# Altium footprint library Connectors.PcbLib: 69 footprints (part 1 of 5)
Each footprint in its own frame and in the unit in brackets; x right, y up, seen from the top. Pads: shape width x height; smd on the part's side, far side on the other; paste and mask are expansions set on the pad; w line width, h text height; cw(c..) or ccw(c..) is an arc to the next point about the centre after c.
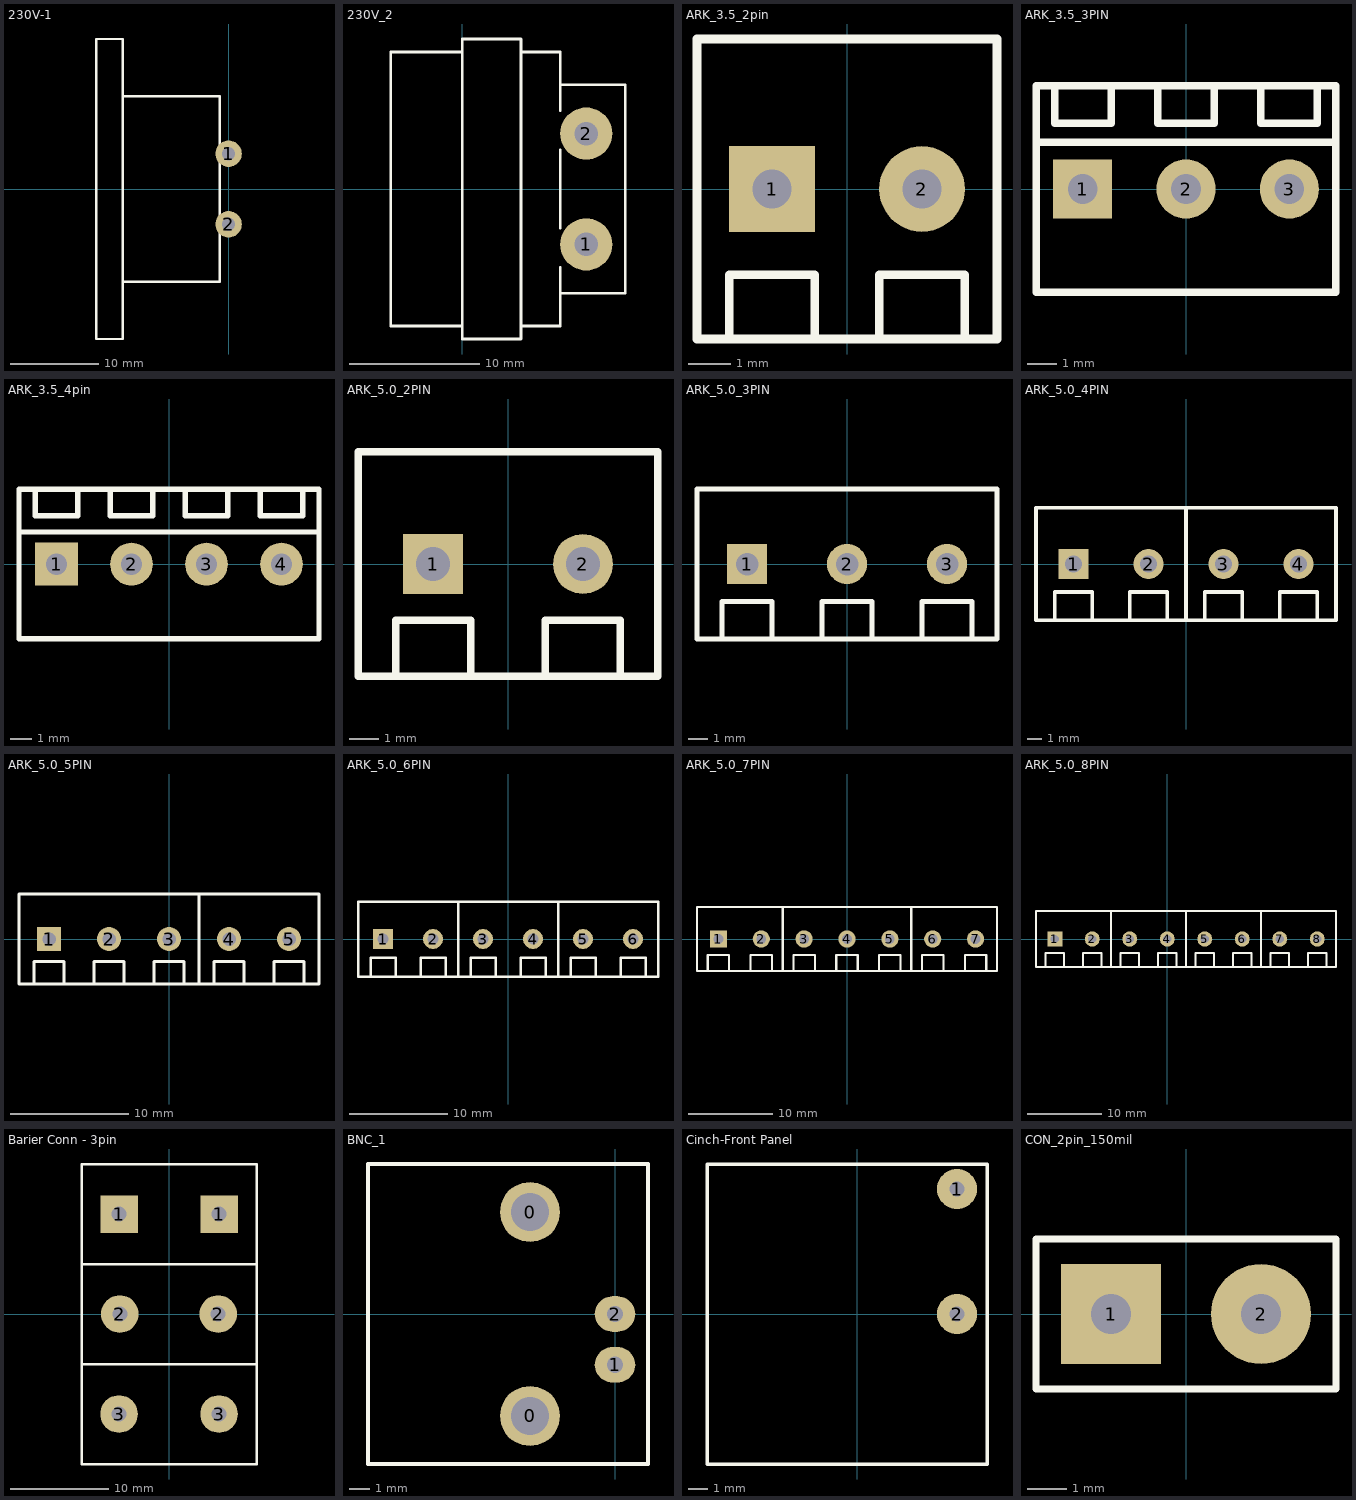
[diagram p0: the footprints below, top view; thin cyan lines are the x and y axes]

## 230V-1 [mm] "Gniazdo 230 \"ósemka\" do druku"
height 14.5
pads (2):
  round 3 hole 1.5: 1(0,4) 2(0,-4)
Top Overlay:
  lines w0.254: -12,-10.5 -1,-10.5 -1,10.5 -12,10.5 ; -15,-17 -15,0 -15,17 -12,17 -12,-17 -15,-17
3D body "230V_8_PCB.STEP": height 14.68, standoff -2.07, extent -17.95,-17 0.25,17

## 230V_2 [mm] "Gniazdo 230V, \"ósemka\" do druku"
height 12.5
pads (2):
  round 4 hole 1.8 unplated: 1(9.5,-4.25) 2(9.5,4.25)
Top Overlay:
  lines w0.203: 0,-10.5 -5.5,-10.5 -5.5,10.5 0,10.5 ; 4.5,-10.5 7.5,-10.5 ; 4.5,10.5 7.5,10.5 7.5,6 ; 7.5,-8 12.5,-8 12.5,8 7.5,8 ; 7.5,-6 7.5,-10.5 ; 7.5,-3 7.5,3 ; 7.5,-10.5 7.5,-10.5 ; 0,-11.5 4.5,-11.5 4.5,11.5 0,11.5 0,-11.5

## ARK_3.5_2pin [mm] "Z³¹cze ARK mini 3.5mm"
height 7.62
pads (2):
  rect 2x2 hole 0.9: 1(-1.75,0)
  round 2 hole 0.9: 2(1.75,0)
Top Overlay:
  lines w0.203: -2.75,-3.5 -2.75,-2 -0.75,-2 -0.75,-3.5 ; 0.75,-3.5 0.75,-2 2.75,-2 2.75,-3.5 ; -3.5,-3.5 3.5,-3.5 3.5,3.5 -3.5,3.5 -3.5,-3.5
3D body "ARK_Body.STEP": height 8.5, standoff 0, extent -3.8,-3.5 3.8,3.5
3D body "ARK_Pin.STEP": height 4.3, standoff -3.9, extent 0.35,-1.9 3.15,1.9
3D body "ARK_Pin.STEP": height 4.3, standoff -3.9, extent -3.15,-1.9 -0.35,1.9
3D body "ARK_Œruba.STEP": height 7, standoff 2.5, extent 0.4,-1.3 3.1,1.397
3D body "ARK_Œruba.STEP": height 7, standoff 2.5, extent -3.1,-1.292 -0.4,1.4

## ARK_3.5_3PIN [mm] "Z³acze ARK raster 3.5mm 3 pin"
height 7.62
pads (3):
  rect 2x2 hole 1: 1(-3.5,0)
  round 2 hole 1: 2(0,0) 3(3.5,0)
Top Overlay:
  lines w0.254: -5.08,1.587 5.08,1.587 ; -4.445,3.492 -4.445,2.222 -2.54,2.222 -2.54,3.492 ; -0.953,3.492 -0.953,2.222 0.953,2.222 0.953,3.492 ; 2.54,3.433 2.54,2.222 4.445,2.222 4.445,3.492 ; -5.08,-3.492 5.08,-3.492 5.08,3.492 -5.08,3.492 -5.08,-3.492
3D body "ARK_3pin_3.5mm.STEP": height 8.52, standoff -3.88, extent -5.55,-3.43 5.55,3.57

## ARK_3.5_4pin [mm] "Z³¹cze ARK mini 3.5mm"
height 7.62
pads (4):
  rect 2x2 hole 1: 1(-5.25,0)
  round 2 hole 1: 2(-1.75,0) 3(1.75,0) 4(5.25,0)
Top Overlay:
  lines w0.254: -7,1.5 7,1.5 ; -6.25,3.5 -6.25,2.25 -4.25,2.25 -4.25,3.5 ; -2.75,3.5 -2.75,2.25 -0.75,2.25 -0.75,3.5 ; 0.75,3.5 0.75,2.25 2.75,2.25 2.75,3.5 ; 4.25,3.5 4.25,2.25 6.25,2.25 6.25,3.5 ; -7,-3.485 7,-3.485 7,3.5 -7,3.5 -7,-3.485
3D body "ARK_Œruba.STEP": height 7, standoff 2.5, extent 0.4,-1.292 3.1,1.4
3D body "ARK_Œruba.STEP": height 7, standoff 2.5, extent 3.9,-1.3 6.6,1.397
3D body "ARK_Pin.STEP": height 4.3, standoff -3.9, extent 0.35,-1.9 3.15,1.9
3D body "ARK_Pin.STEP": height 4.3, standoff -3.9, extent 3.85,-1.9 6.65,1.9
3D body "ARK_Body.STEP": height 8.5, standoff 0, extent -0.3,-3.5 7.3,3.5
3D body "ARK_Œruba.STEP": height 7, standoff 2.5, extent -6.6,-1.292 -3.9,1.4
3D body "ARK_Œruba.STEP": height 7, standoff 2.5, extent -3.1,-1.3 -0.4,1.397
3D body "ARK_Pin.STEP": height 4.3, standoff -3.9, extent -6.65,-1.9 -3.85,1.9
3D body "ARK_Pin.STEP": height 4.3, standoff -3.9, extent -3.15,-1.9 -0.35,1.9
3D body "ARK_Body.STEP": height 8.5, standoff 0, extent -7.3,-3.5 0.3,3.5

## ARK_5.0_2PIN [mil] "ARK Screw Connector 2PINs"
height 400
pads (2):
  rect 80x80 hole 45: 1(-100,0)
  round 80 hole 45: 2(100,0)
Top Overlay:
  lines w10: -150,-150 -150,-75 -50,-75 -50,-150 ; 50,-150 50,-75 150,-75 150,-150 ; -200,-150 -200,150 200,150 200,-150 -200,-150

## ARK_5.0_3PIN [mil] "ARK Screw Connector 3PINs"
height 400
pads (3):
  rect 80x80 hole 45: 1(-200,0)
  round 80 hole 45: 2(0,0) 3(200,0)
Top Overlay:
  lines w10: -250,-150 -250,-75 -150,-75 -150,-150 ; -50,-150 -50,-75 50,-75 50,-150 ; 150,-150 150,-75 250,-75 250,-150 ; -300,-150 300,-150 300,150 -300,150 -300,-150

## ARK_5.0_4PIN [mil] "ARK Screw Connector 4PINs"
height 400
pads (4):
  rect 80x80 hole 45: 1(-300,0)
  round 80 hole 45: 2(-100,0) 3(100,0) 4(300,0)
Top Overlay:
  lines w10: -350,-150 -350,-75 -250,-75 -250,-150 ; -150,-150 -150,-75 -50,-75 -50,-150 ; 0,-150 0,150 ; 50,-150 50,-75 150,-75 150,-150 ; 250,-150 250,-75 350,-75 350,-150 ; -400,-150 400,-150 400,150 -400,150 -400,-150

## ARK_5.0_5PIN [mil] "ARK Screw Connector 5PINs"
height 400
pads (5):
  rect 80x80 hole 45: 1(-400,0)
  round 80 hole 45: 2(-200,0) 3(0,0) 4(200,0) 5(400,0)
Top Overlay:
  lines w10: -450,-150 -450,-75 -350,-75 -350,-150 ; -250,-150 -250,-75 -150,-75 -150,-150 ; -50,-150 -50,-75 50,-75 50,-150 ; 100,-150 100,150 ; 150,-150 150,-75 250,-75 250,-150 ; 350,-150 350,-75 450,-75 450,-150 ; -500,-150 -500,150 500,150 500,-150 -500,-150

## ARK_5.0_6PIN [mil] "ARK Screw Connector 6PINs"
height 400
pads (6):
  rect 80x80 hole 45: 1(-500,0)
  round 80 hole 45: 2(-300,0) 3(-100,0) 4(100,0) 5(300,0) 6(500,0)
Top Overlay:
  lines w10: -550,-150 -550,-75 -450,-75 -450,-150 ; -350,-150 -350,-75 -250,-75 -250,-150 ; -200,-150 -200,150 ; -150,-150 -150,-75 -50,-75 -50,-150 ; 50,-150 50,-75 150,-75 150,-150 ; 200,-150 200,150 ; 250,-150 250,-75 350,-75 350,-150 ; 450,-150 450,-75 550,-75 550,-150 ; -600,-150 -600,150 600,150 600,-150 -600,-150

## ARK_5.0_7PIN [mil] "ARK Screw Connector 7PINs"
height 400
pads (7):
  rect 80x80 hole 45: 1(-600,0)
  round 80 hole 45: 2(-400,0) 3(-200,0) 4(0,0) 5(200,0) 6(400,0) 7(600,0)
Top Overlay:
  lines w10: -650,-150 -650,-75 -550,-75 -550,-150 ; -450,-150 -450,-75 -350,-75 -350,-150 ; -300,-150 -300,150 ; -250,-150 -250,-75 -150,-75 -150,-150 ; -50,-150 -50,-75 50,-75 50,-150 ; 150,-150 150,-75 250,-75 250,-150 ; 300,-150 300,150 ; 350,-150 350,-75 450,-75 450,-150 ; 550,-150 550,-75 650,-75 650,-150 ; -700,-150 700,-150 700,150 -700,150 -700,-150

## ARK_5.0_8PIN [mil] "ARK Screw Connector 8PINs"
height 400
pads (8):
  rect 80x80 hole 45: 1(-600,0)
  round 80 hole 45: 2(-400,0) 3(-200,0) 4(0,0) 5(200,0) 6(400,0) 7(600,0) 8(800,0)
Top Overlay:
  lines w10: -650,-150 -650,-75 -550,-75 -550,-150 ; -450,-150 -450,-75 -350,-75 -350,-150 ; -300,-150 -300,150 ; -250,-150 -250,-75 -150,-75 -150,-150 ; -50,-150 -50,-75 50,-75 50,-150 ; 100,-150 100,150 ; 150,-150 150,-75 250,-75 250,-150 ; 350,-150 350,-75 450,-75 450,-150 ; 500,-150 500,150 ; 550,-150 550,-75 650,-75 650,-150 ; 750,-150 750,-75 850,-75 850,-150 ; -700,-150 -700,150 900,150 900,-150 -700,-150

## Barier Conn - 3pin [mil] "Barier Conector 3pin - 25A 1000V"
height 669.29
pads (6):
  rect 150x150 hole 60 unplated: 1(-200,400) 1(200,400)
  round 150 hole 60 unplated: 2(-196.85,0) 2(196.85,0) 3(-200,-400) 3(200,-400)
Top Overlay:
  lines w10: -350,-200 350,-200 ; -350,200 350,200 ; -350,-600 350,-600 350,600 -350,600 -350,-600

## BNC_1 [mm] "BNC Angle Connector"
height 16.51
pads (4):
  round 3 hole 1.9: 0(-4.25,-5.1) 0(-4.25,5.1)
  oval 2.032x1.778 hole 0.813: 1(0,-2.54) 2(0,0)
Top Overlay:
  lines w0.178: -12.35,-7.5 -12.35,7.5 1.65,7.5 1.65,-7.5 -12.35,-7.5
3D body "BNC_K¹towy_1.STEP": height 16, standoff -2.5, extent -32.8,-7.5 1.7,7.5

## Cinch-Front Panel [mil] "Gniazdo Cinch na panel"
height 600
pads (2):
  round 80 hole 30: 1(200,250) 2(200,0)
Top Overlay:
  lines w7: -300,-300 0,-300 260,-300 260,300 0,300 -300,300 -300,-300
3D body "Cinch_Front_Panel.STEP": height 260.34, standoff -330.21, extent -777.72,-295.55 257.72,295

## CON_2pin_150mil [mil] "Konektor 2pin raster 150mils"
pads (2):
  rect 100x100 hole 40: 1(-75,0)
  round 100 hole 40: 2(75,0)
Top Overlay:
  lines w7: -150,-75 150,-75 150,75 -150,75 -150,-75